# Altium schematic symbol library nnts_brad.SchLib: 40 symbols (part 1 of 2)
Pins are listed as number, name and electrical type; pins without a type are passive.

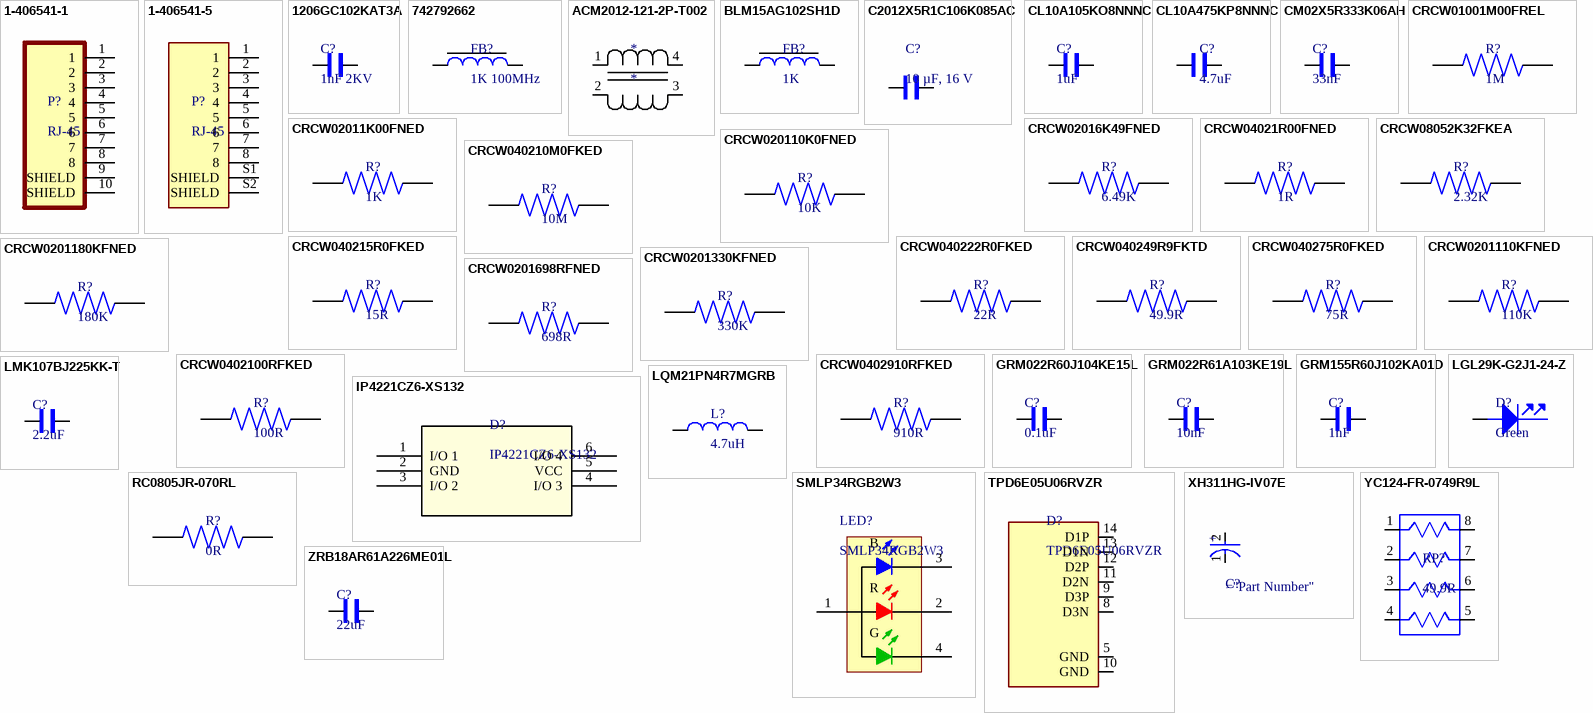
[diagram p0: symbols 1-406541-1 to ZRB18AR61A226ME01L]

## 1-406541-1
designator P?, comment RJ-45
CONN MOD JACK 8P8C R/A SHIELDED; Manufacturer: TE Connectivity; Manufacturer Part Number: 14065411; Number of Terminals/Pins: 10; Keyed: No; Element Configuration: Single; Max Voltage Rating (AC): 150V; Number of Ports: 1; Number of Positions: 8; PCB Mounting Orientation: Right Angle; Gender: Female; Direction: Up; Pitch: 2.04mm; Tail Length: 2.54mm; PCB Thickness: 1.57mm; Approvals: UL,CSA; Supplier 1: Digi-Key; RoHS: Yes; Category: Modular / Ethernet Connectors; Stock 1: 7760; Pricing 1: 1=2.970000, 10=2.848000, 25=2.610400, 50=2.492000, 100=2.373200, 250=2.076600, 500=2.017260, 1000=1.720600, 2500=1.601940 (USD); Mount: Panel; Housing Color: Black; Contact Material: Bronze; Contact Plating: Gold; Housing Material: Thermoplastic; Min Operating Temperature: -40°C; Max Operating Temperature: 80°C; Orientation: Right Angle; Termination: Solder; Packaging: Tray; Package Quantity: 441; Shielding: Shielded; Number of Positions Loaded: 8; Number of Contacts: 8; Connector Type: Jack; Number of Rows: 1; Contact Gender: Female; Length: 17.27mm; Depth: 15.75mm; Radiation Hardening: No; Flammability Rating: UL94 V-0; ELV: Compliant; REACH SVHC: No SVHC; Lead Free: Lead Free; ComponentLink1URL: https://datasheet.ciiva.com/1107/eng-cd-406541-n-1107155.pdf?src-supplier=Element14; ComponentLink1Description: https://datasheet.ciiva.com/1107/eng-cd-406541-n-1107155.pdf?src-supplier=Element14; ComponentLink2URL: https://datasheet.ciiva.com/16215/eng-cs-82066-mod-jacks-and-mrj21-prod-single-1107-16215827.pdf?src-supplier=Future+Electronics; ComponentLink2Description: https://datasheet.ciiva.com/16215/eng-cs-82066-mod-jacks-and-mrj21-prod-single-1107-16215827.pdf?src-supplier=Future+Electronics; ComponentLink3URL: https://datasheet.ciiva.com/19457/889364-19457715.pdf?src-supplier=Jameco; ComponentLink3Description: https://datasheet.ciiva.com/19457/889364-19457715.pdf?src-supplier=Jameco; ComponentLink4URL: https://datasheet.ciiva.com/30494/0900766b8121ebe5-30494365.pdf?src-supplier=RSComponents; ComponentLink4Description: https://datasheet.ciiva.com/30494/0900766b8121ebe5-30494365.pdf?src-supplier=RSComponents; ComponentLink5URL: https://datasheet.ciiva.com/25908/eng-cs-82066-mod-jacks-and-mrj21-prod-single-1107-25908697.pdf?src-supplier=Avnet+Europe; ComponentLink5Description: https://datasheet.ciiva.com/25908/eng-cs-82066-mod-jacks-and-mrj21-prod-single-1107-25908697.pdf?src-supplier=Avnet+Europe; ComponentLink6URL: https://datasheet.ciiva.com/30230/eng-cs-82066-mod-jacks-and-mrj21-prod-single-1107-30230857.pdf?src-supplier=Onlinecomponents.com; ComponentLink6Description: https://datasheet.ciiva.com/30230/eng-cs-82066-mod-jacks-and-mrj21-prod-single-1107-30230857.pdf?src-supplier=Onlinecomponents.com; ComponentLink7URL: https://datasheet.ciiva.com/14619/70042871-14619116.pdf?src-supplier=Allied+Electronics; ComponentLink7Description: https://datasheet.ciiva.com/14619/70042871-14619116.pdf?src-supplier=Allied+Electronics; ComponentLink8URL: https://datasheet.ciiva.com/3138/eng-cs-82066-mod-jacks-and-mrj21-prod-single-1107-3138605.pdf?src-supplier=Avnet; ComponentLink8Description: https://datasheet.ciiva.com/3138/eng-cs-82066-mod-jacks-and-mrj21-prod-single-1107-3138605.pdf?src-supplier=Avnet; Supplier Part Number 1: A97716-ND
footprint TE_1-406541-1
pins: 1, 2, 3, 4, 5, 6, 7, 8, 9 SHIELD, 10 SHIELD

## 1-406541-5
designator P?, comment RJ-45
Conn RJ-45 F 8 POS 2.04mm Solder RA Thru-Hole 8 Terminal 1 Port Tray Cat 5; Manufacturer: TE Connectivity; Manufacturer Part Number: 1-406541-5; Keyed: No; Element Configuration: Single; Shielding: Shielded; Max Voltage Rating (AC): 150V; Number of Ports: 1; Number of Positions: 8; PCB Mounting Orientation: Right Angle; Connector Type: Jack; Gender: Female; Direction: Up; Tail Length: 2.54mm; PCB Thickness: 1.57mm; Supplier 1: Digi-Key; RoHS: Yes; Category: Modular / Ethernet Connectors; Stock 1: 2926; Pricing 1: 1=2.85000, 10=2.73200, 25=2.50440, 50=2.39040, 100=2.27660, 250=1.99208, 500=1.93514, 1000=1.65056, 2500=1.53673 (USD); Mount: Panel; Housing Material: Thermoplastic; Contact Plating: Gold; Contact Material: Bronze; Housing Color: Black; Min Operating Temperature: -40°C; Max Operating Temperature: 80°C; Termination: Solder; Orientation: Right Angle; Packaging: Tray; Package Quantity: 441; Number of Positions Loaded: 8; Number of Contacts: 8; Number of Rows: 1; Length: 17.27mm; Pitch: 2.04mm; Depth: 15.75mm; Radiation Hardening: No; Flammability Rating: UL94 V-0; REACH SVHC: Unknown; ComponentLink1URL: https://datasheet.ciiva.com/30494/0900766b8121d3cc-30494417.pdf?src-supplier=RSComponents; ComponentLink1Description: https://datasheet.ciiva.com/30494/0900766b8121d3cc-30494417.pdf?src-supplier=RSComponents; ComponentLink2URL: https://datasheet.ciiva.com/1107/1652951-1107156.pdf?src-supplier=Element14; ComponentLink2Description: https://datasheet.ciiva.com/1107/1652951-1107156.pdf?src-supplier=Element14; ComponentLink3URL: https://datasheet.ciiva.com/16324/eng-cd-406541-m8-16324678.pdf?src-supplier=Future+Electronics; ComponentLink3Description: https://datasheet.ciiva.com/16324/eng-cd-406541-m8-16324678.pdf?src-supplier=Future+Electronics; ComponentLink4URL: https://datasheet.ciiva.com/23759/1509418-23759355.pdf?src-supplier=Newark; ComponentLink4Description: https://datasheet.ciiva.com/23759/1509418-23759355.pdf?src-supplier=Newark; ComponentLink5URL: https://datasheet.ciiva.com/16548/eng-cd-406541-j-16548134.pdf?src-supplier=Avnet+Europe; ComponentLink5Description: https://datasheet.ciiva.com/16548/eng-cd-406541-j-16548134.pdf?src-supplier=Avnet+Europe; ComponentLink6URL: https://datasheet.ciiva.com/26824/getdatasheetpartid-242299-26824299.pdf?src-supplier=Verical; ComponentLink6Description: https://datasheet.ciiva.com/26824/getdatasheetpartid-242299-26824299.pdf?src-supplier=Verical; Supplier Part Number 1: A102038-ND
footprint TE_1-406541-5
pins: 1, 2, 3, 4, 5, 6, 7, 8, S1 SHIELD, S2 SHIELD

## 1206GC102KAT3A
designator C?, comment 1nF 2KV
1206 1000 pF 2000 V ±10 % Tolerance X7R SMT Multilayer Ceramic Capacitor; Manufacturer: Kyocera AVX; Manufacturer Part Number: 1206GC102KAT3A; Tolerance: 10%; Supplier 1: Mouser; RoHS: Yes; Category: Ceramic Capacitors; Stock 1: 40204; Pricing 1: 1=0.37000, 10=0.27700, 100=0.16600, 500=0.12500, 1000=0.10800, 2500=0.08900 (USD); Mount: Surface Mount; Case/Package: 1206; Case Code (Imperial): 1206; Case Code (Metric): 3216; Min Operating Temperature: -55°C; Max Operating Temperature: 125°C; Capacitance: 1nF; Packaging: Tape and Reel; Package Quantity: 10000; Voltage Rating: 2kV; Dielectric: X7R; Voltage Rating (DC): 2kV; Termination: SMD/SMT; Length: 3.2mm; Depth: 1.6mm; ComponentLink1URL: https://datasheet.ciiva.com/13205/aphvc-13205007.pdf?src-supplier=Mouser; ComponentLink1Description: https://datasheet.ciiva.com/13205/aphvc-13205007.pdf?src-supplier=Mouser; Supplier Part Number 1: 581-1206GC102KAT3A
footprint RESC1206X70N
pins: 1, 2

## 742792662
designator FB?, comment 1K 100MHz
Ferrite Beads Multi-Layer Chip Bead 1KOhm 25% 100MHz 600mA 0603 T/R; Manufacturer: Wurth Electronics; Manufacturer Part Number: 742792662; Impedance: 1kR; Number of Lines: 1; DC Resistance (DCR): 300mR; Test Frequency: 120MHz; Supplier 1: Digi-Key; RoHS: Yes; Category: Ferrite Beads and Chips; Stock 1: 96964; Pricing 1: 1=0.17000, 50=0.16800, 100=0.15500, 500=0.14800, 1000=0.14100, 2000=0.13400 (USD); Mount: Surface Mount; Case/Package: SMD/SMT; Case Code (Metric): 1608; Case Code (Imperial): 0603; Weight: 7.1E-05oz; Material: Ferrite; Min Operating Temperature: -55°C; Max Operating Temperature: 125°C; Package Quantity: 4000; Packaging: Tape and Reel; Tolerance: 25%; Max Current Rating: 600mA; Max DC Current: 600mA; Termination: SMD/SMT; Length: 1.6mm; Width: 0.031inch; Height: 0.8mm; Depth: 0.8mm; Lead Free: Lead Free; ComponentLink1URL: https://datasheet.ciiva.com/29364/742792662-29364469.pdf?src-supplier=Digi-Key; ComponentLink1Description: https://datasheet.ciiva.com/29364/742792662-29364469.pdf?src-supplier=Digi-Key; ComponentLink2URL: https://datasheet.ciiva.com/30489/0900766b812a6756-30489145.pdf?src-supplier=RSComponents; ComponentLink2Description: https://datasheet.ciiva.com/30489/0900766b812a6756-30489145.pdf?src-supplier=RSComponents; ComponentLink3URL: https://datasheet.ciiva.com/29364/742792662-29364471.pdf?src-supplier=Digi-Key; ComponentLink3Description: https://datasheet.ciiva.com/29364/742792662-29364471.pdf?src-supplier=Digi-Key; ComponentLink4URL: https://datasheet.ciiva.com/29364/742792662-29364473.pdf?src-supplier=Digi-Key; ComponentLink4Description: https://datasheet.ciiva.com/29364/742792662-29364473.pdf?src-supplier=Digi-Key; Supplier Part Number 1: 732-4670-1-ND
footprint FB0603
pins: 1, 2

## ACM2012-121-2P-T002
designator *
TDK - ACM2012-121-2P-T002 - Filter, Common Mode, ACM Series, 120 ohm, 370 mA, 2mm x 1.2mm x 1.3mm; Impedance: 120R; Voltage Rating: 50V; Number of Lines: 2; Current Rating: 370mA; DC Resistance (DCR): 220mR; Test Frequency: 100MHz; Shielding: Shielded; Supplier 1: Digi-Key; Manufacturer: TDK; Manufacturer Part Number: ACM2012-121-2P-T002; RoHS: Yes; Category: Common Mode Chokes; Stock 1: 21794; Pricing 1: 1=0.45000, 10=0.39200, 25=0.36400, 50=0.30800, 100=0.28000, 250=0.26320, 500=0.23520, 1000=0.19040 (USD); Mount: Surface Mount; Case/Package: 0805; Min Operating Temperature: -40°C; Max Operating Temperature: 85°C; Package Quantity: 1; Packaging: Tape and Reel; Voltage Rating (DC): 50V; Max DC Current: 370mA; Termination: SMD/SMT; Current: 370mA; Length: 2mm; Width: 1.2mm; Height: 1.3mm; Depth: 1.2mm; REACH SVHC: No SVHC; Lead Free: Lead Free; ComponentLink1URL: https://datasheet.ciiva.com/26793/acm2012-121-2p-t002-26793322.pdf?src-supplier=IIIC; ComponentLink1Description: https://datasheet.ciiva.com/26793/acm2012-121-2p-t002-26793322.pdf?src-supplier=IIIC; ComponentLink2URL: https://datasheet.ciiva.com/1007/e9712-acm-1007629.pdf?src-supplier=Digi-Key; ComponentLink2Description: https://datasheet.ciiva.com/1007/e9712-acm-1007629.pdf?src-supplier=Digi-Key; ComponentLink3URL: https://datasheet.ciiva.com/1007/e9712-acm-1007630.pdf?src-supplier=Digi-Key; ComponentLink3Description: https://datasheet.ciiva.com/1007/e9712-acm-1007630.pdf?src-supplier=Digi-Key; ComponentLink4URL: https://datasheet.ciiva.com/1007/e9712-acm-1007631.pdf?src-supplier=Digi-Key; ComponentLink4Description: https://datasheet.ciiva.com/1007/e9712-acm-1007631.pdf?src-supplier=Digi-Key; ComponentLink5URL: https://datasheet.ciiva.com/16416/e9719-acm2012-16416519.pdf?src-supplier=Future+Electronics; ComponentLink5Description: https://datasheet.ciiva.com/16416/e9719-acm2012-16416519.pdf?src-supplier=Future+Electronics; ComponentLink6URL: https://datasheet.ciiva.com/46450/1750020-46450935.pdf?src-supplier=Element14; ComponentLink6Description: https://datasheet.ciiva.com/46450/1750020-46450935.pdf?src-supplier=Element14; Supplier Part Number 1: 445-2208-1-ND
footprint IND_TDK_ACM2012_2P_TDK-M
pins: 1, 2, 3, 4

## BLM15AG102SH1D
designator FB?, comment 1K
FERRITE BEAD 1 KOHM 0402 1LN; Manufacturer: Murata; Manufacturer Part Number: BLM15AG102SH1D; Impedance: 1kR; Tolerance: 25%; Max DC Current: 200mA; DC Resistance (DCR): 1R; Test Frequency: 100MHz; Number of Lines: 1; Supplier 1: Digi-Key; RoHS: Yes; Category: Ferrite Beads and Chips; Stock 1: 79326; Pricing 1: 1=0.11000, 10=0.09300, 25=0.08320, 50=0.06100, 100=0.05270, 250=0.04164, 500=0.03516, 1000=0.02960, 5000=0.02636 (USD); Mount: Surface Mount; Case/Package: 0402; Core Material: Ferrite; Case Code (Metric): 1005; Case Code (Imperial): 0402; Min Operating Temperature: -55°C; Max Operating Temperature: 125°C; Packaging: Tape and Reel; Package Quantity: 10000; Termination: SMD/SMT; Max Current Rating: 200mA; Number of Circuits: 1; Length: 0.039inch; Width: 0.5mm; Height: 0.022inch; Depth: 0.55mm; Ratings: AEC-Q200; REACH SVHC: No SVHC; ComponentLink1URL: https://datasheet.ciiva.com/29364/l0132s0193blm15a-sh-29364285.pdf?src-supplier=Digi-Key; ComponentLink1Description: https://datasheet.ciiva.com/29364/l0132s0193blm15a-sh-29364285.pdf?src-supplier=Digi-Key; ComponentLink2URL: https://datasheet.ciiva.com/17279/l0132s0193blm15a-sh-17279626.pdf?src-supplier=Avnet+Europe; ComponentLink2Description: https://datasheet.ciiva.com/17279/l0132s0193blm15a-sh-17279626.pdf?src-supplier=Avnet+Europe; ComponentLink3URL: https://datasheet.ciiva.com/8510/l0132s0193blm15a-sh-8510171.pdf?src-supplier=Avnet; ComponentLink3Description: https://datasheet.ciiva.com/8510/l0132s0193blm15a-sh-8510171.pdf?src-supplier=Avnet; ComponentLink4URL: https://datasheet.ciiva.com/29364/l0132s0193blm15a-sh-29364283.pdf?src-supplier=Digi-Key; ComponentLink4Description: https://datasheet.ciiva.com/29364/l0132s0193blm15a-sh-29364283.pdf?src-supplier=Digi-Key; ComponentLink5URL: https://datasheet.ciiva.com/29364/l0132s0193blm15a-sh-29364286.pdf?src-supplier=Digi-Key; ComponentLink5Description: https://datasheet.ciiva.com/29364/l0132s0193blm15a-sh-29364286.pdf?src-supplier=Digi-Key; Supplier Part Number 1: 490-7804-1-ND
footprint FB0402
pins: 1, 2

## C2012X5R1C106K085AC
designator C?, comment 10 µF, 16 V
TDK - C2012X5R1C106K085AC - SMD Multilayer Ceramic Capacitor, 10 µF, 16 V, 0805 [2012 Metric], ± 10%, X5R, C Series TDK; Capacitance: 10uF; Voltage Rating: 16V; Supplier 1: Digi-Key; Manufacturer: TDK; Manufacturer Part Number: C2012X5R1C106K085AC; RoHS: Yes; Category: Ceramic Capacitors; Stock 1: 1442350; Pricing 1: 1=0.25000, 10=0.17500, 100=0.09890, 500=0.06982, 1000=0.06110 (USD); Mount: Surface Mount; Case/Package: 0805; Number of Pins: 2; Weight: 0.000194oz; Case Code (Metric): 2012; Case Code (Imperial): 0805; Dielectric Material: Ceramic; Min Operating Temperature: -55°C; Max Operating Temperature: 85°C; Tolerance: 10%; Packaging: Tape and Reel; Voltage Rating (DC): 16V; Termination: SMD/SMT; Dielectric: X5R; Package Quantity: 1; Composition: Ceramic; Length: 2mm; Height: 0.85mm; Depth: 1.25mm; Width: 0.049inch; Thickness: 0.037inch; Lead Free: Lead Free; REACH SVHC: No SVHC; ComponentLink1URL: https://datasheet.ciiva.com/24218/c2012x5r1c106k085ac-264980-24218056.pdf?src-supplier=Mouser; ComponentLink1Description: https://datasheet.ciiva.com/24218/c2012x5r1c106k085ac-264980-24218056.pdf?src-supplier=Mouser; ComponentLink2URL: https://datasheet.ciiva.com/28451/1796654-28451610.pdf?src-supplier=Element14; ComponentLink2Description: https://datasheet.ciiva.com/28451/1796654-28451610.pdf?src-supplier=Element14; ComponentLink3URL: https://datasheet.ciiva.com/28602/1744655-28602170.pdf?src-supplier=Element14; ComponentLink3Description: https://datasheet.ciiva.com/28602/1744655-28602170.pdf?src-supplier=Element14; ComponentLink4URL: https://datasheet.ciiva.com/6259/tdkmlcccaprange-6259116.pdf?src-supplier=Digi-Key; ComponentLink4Description: https://datasheet.ciiva.com/6259/tdkmlcccaprange-6259116.pdf?src-supplier=Digi-Key; ComponentLink5URL: https://datasheet.ciiva.com/23803/1796654-23803020.pdf?src-supplier=Newark; ComponentLink5Description: https://datasheet.ciiva.com/23803/1796654-23803020.pdf?src-supplier=Newark; ComponentLink6URL: https://datasheet.ciiva.com/22719/1796654-22719549.pdf?src-supplier=Element14; ComponentLink6Description: https://datasheet.ciiva.com/22719/1796654-22719549.pdf?src-supplier=Element14; ComponentLink7URL: https://datasheet.ciiva.com/6259/tdkmlcccaprange-6259119.pdf?src-supplier=Digi-Key; ComponentLink7Description: https://datasheet.ciiva.com/6259/tdkmlcccaprange-6259119.pdf?src-supplier=Digi-Key; ComponentLink8URL: https://datasheet.ciiva.com/28673/mlcc-commercial-general-en-28673535.pdf?src-supplier=Element14; ComponentLink8Description: https://datasheet.ciiva.com/28673/mlcc-commercial-general-en-28673535.pdf?src-supplier=Element14; Supplier Part Number 1: 445-7644-1-ND
footprint C0805
pins: 1, 2

## CL10A105KO8NNNC
designator C?, comment 1uF
SAMSUNG ELECTRO-MECHANICS - CL10A105KO8NNNC - CAP, 1UF, 16V, MLCC, 0603; Material: Ceramic; Tolerance: 10%; Dielectric: X5R; Supplier 1: Digi-Key; Manufacturer: Samsung; Manufacturer Part Number: CL10A105KO8NNNC; RoHS: Yes; Category: Ceramic Capacitors; Stock 1: 1739627; Pricing 1: 1=0.10000, 10=0.03500, 50=0.01920, 100=0.01570, 500=0.01124, 1000=0.00883 (USD); Mount: Surface Mount; Case/Package: 0603; Case Code (Metric): 1608; Case Code (Imperial): 0603; Contact Plating: Tin; Min Operating Temperature: -55°C; Max Operating Temperature: 85°C; Capacitance: 1uF; Package Quantity: 1; Packaging: Tape and Reel; Voltage Rating: 16V; Voltage Rating (DC): 16V; Voltage: 16V; Length: 1.6mm; Width: 0.031inch; Height: 0.8mm; Thickness: 0.035inch; Depth: 0.8mm; Radiation Hardening: No; Lead Free: Lead Free; ComponentLink1URL: https://datasheet.ciiva.com/16199/cl10a105ko8nnnc-16199033.pdf?src-supplier=Future+Electronics; ComponentLink1Description: https://datasheet.ciiva.com/16199/cl10a105ko8nnnc-16199033.pdf?src-supplier=Future+Electronics; ComponentLink2URL: https://datasheet.ciiva.com/15195/getdatasheetpartid-359688-15195706.pdf?src-supplier=Verical; ComponentLink2Description: https://datasheet.ciiva.com/15195/getdatasheetpartid-359688-15195706.pdf?src-supplier=Verical; ComponentLink3URL: https://datasheet.ciiva.com/29198/458190-da-01-en-vs-kondensator-0603-29198480.pdf?src-supplier=Conrad; ComponentLink3Description: https://datasheet.ciiva.com/29198/458190-da-01-en-vs-kondensator-0603-29198480.pdf?src-supplier=Conrad; Supplier Part Number 1: 1276-1034-1-ND
footprint C0603
pins: 1, 2

## CL10A475KP8NNNC
designator C?, comment 4.7uF
Cap Ceramic 4.7uF 10V X5R 10% Pad SMD 0603 85C T/R; Manufacturer: Samsung; Manufacturer Part Number: CL10A475KP8NNNC; Supplier 1: Digi-Key; RoHS: Yes; Category: Ceramic Capacitors; Stock 1: 274416; Pricing 1: 1=0.10000, 10=0.04800, 50=0.02620, 100=0.02140, 500=0.01528, 1000=0.01201 (USD); Mount: Surface Mount; Case/Package: 0603; Case Code (Imperial): 0603; Contact Plating: Tin; Case Code (Metric): 1608; Min Operating Temperature: -55°C; Max Operating Temperature: 85°C; Tolerance: 10%; Capacitance: 4.7uF; Dielectric: X5R; Package Quantity: 1; Packaging: Tape and Reel; Voltage Rating: 10V; Length: 1.6mm; Width: 0.031inch; Height: 0.8mm; Thickness: 0.035inch; Depth: 0.8mm; Radiation Hardening: No; ComponentLink1URL: https://datasheet.ciiva.com/25797/cl10a475kp8nnnc-25797520.pdf?src-supplier=Digi-Key; ComponentLink1Description: https://datasheet.ciiva.com/25797/cl10a475kp8nnnc-25797520.pdf?src-supplier=Digi-Key; ComponentLink2URL: https://datasheet.ciiva.com/26838/getdatasheetpartid-358676-26838384.pdf?src-supplier=Verical; ComponentLink2Description: https://datasheet.ciiva.com/26838/getdatasheetpartid-358676-26838384.pdf?src-supplier=Verical; ComponentLink3URL: https://datasheet.ciiva.com/16318/cl05b104kq5nnnc-16318245.pdf?src-supplier=Future+Electronics; ComponentLink3Description: https://datasheet.ciiva.com/16318/cl05b104kq5nnnc-16318245.pdf?src-supplier=Future+Electronics; Supplier Part Number 1: 1276-1044-1-ND
footprint C0603
pins: 1, 2

## CM02X5R333K06AH
designator C?, comment 33nF
Multilayer Ceramic Capacitors MLCC - SMD/SMT 6.3V 0.033uF X5R 01005 10%; Manufacturer: Kyocera AVX; Manufacturer Part Number: CM02X5R333K06AH; Supplier 1: Digi-Key; RoHS: No; Stock 1: 20000; Pricing 1: 1=0.10000, 10=0.04800, 50=0.02640, 100=0.02160, 500=0.01540, 1000=0.01210, 2500=0.01100, 5000=0.01012 (USD); Supplier Part Number 1: 1253-CM02X5R333K06AHCT-ND
footprint C0402
pins: 1, 2

## CRCW01001M00FREL
designator R?, comment 1M
CRCW01005 250 1M0 1% ET3 e3; Manufacturer: Vishay Dale; Manufacturer Part Number: CRCW01001M00FREL; Resistance: 1MR; Max Power Dissipation: 30mW; Temperature Coefficient: 250ppm/°C; Supplier 1: Digi-Key; RoHS: Yes; Category: Chip SMD Resistors; Stock 1: 36606; Pricing 1: 1=0.24000, 10=0.20400, 100=0.07960, 1000=0.03330, 2500=0.03052, 5000=0.02775 (USD); Case Code (Imperial): 1005; Case Code (Metric): 0402; Min Operating Temperature: -55°C; Max Operating Temperature: 125°C; Tolerance: 1%; Package Quantity: 20000; Packaging: Tape and Reel; Resistor Type: Thick Film; Number of Terminations: 2; Length: 0.016inch; Width: 0.008inch; Height: 0.006inch; ComponentLink1URL: http://www.vishay.com/docs/20056/crcw01005e3.pdf?src-supplier=Digi-Key; ComponentLink1Description: http://www.vishay.com/docs/20056/crcw01005e3.pdf?src-supplier=Digi-Key; Supplier Part Number 1: 541-4280-1-ND
footprint R0402 Vishay
pins: 1, 2

## CRCW02011K00FNED
designator R?, comment 1K
Res Thick Film 0201 1K Ohm 1% 1/20W 200ppm/C Molded SMD SMD Paper T/R; Manufacturer: Vishay; Manufacturer Part Number: CRCW02011K00FNED; Resistance: 1kR; Power Rating: 50mW; Voltage Rating: 30V; Temperature Coefficient: 200ppm/°C; Supplier 1: Digi-Key; RoHS: Yes; Category: Chip SMD Resistors; Stock 1: 279214; Pricing 1: 1=0.10000, 10=0.05700, 100=0.02300, 1000=0.01034, 2500=0.00897, 5000=0.00741 (USD); Mount: Surface Mount; Case/Package: 0201; Number of Pins: 2; Weight: 6E-06oz; Case Code (Metric): 0603; Case Code (Imperial): 0201; Contact Plating: Tin; Min Operating Temperature: -55°C; Max Operating Temperature: 155°C; Packaging: Tape and Reel; Tolerance: 1%; Package Quantity: 1; Resistor Type: Thick Film; Number of Terminations: 2; Termination: SMD/SMT; Max Power Dissipation: 50mW; Voltage Rating (DC): 30V; Length: 0.6mm; Width: 0.012inch; Height: 0.011inch; Depth: 0.3mm; Radiation Hardening: No; REACH SVHC: Unknown; Military Standard: Not; Lead Free: Lead Free; ComponentLink1URL: https://datasheet.ciiva.com/2474/crcw0201e3-2474800.pdf?src-supplier=Digi-Key; ComponentLink1Description: https://datasheet.ciiva.com/2474/crcw0201e3-2474800.pdf?src-supplier=Digi-Key; ComponentLink2URL: https://datasheet.ciiva.com/2474/crcw0201e3-2474802.pdf?src-supplier=Digi-Key; ComponentLink2Description: https://datasheet.ciiva.com/2474/crcw0201e3-2474802.pdf?src-supplier=Digi-Key; ComponentLink3URL: https://datasheet.ciiva.com/22665/1825492-22665818.pdf?src-supplier=Element14; ComponentLink3Description: https://datasheet.ciiva.com/22665/1825492-22665818.pdf?src-supplier=Element14; ComponentLink4URL: https://datasheet.ciiva.com/7983/1719906-7983323.pdf?src-supplier=Element14; ComponentLink4Description: https://datasheet.ciiva.com/7983/1719906-7983323.pdf?src-supplier=Element14; ComponentLink5URL: https://datasheet.ciiva.com/7983/1719906-7983324.pdf?src-supplier=Element14; ComponentLink5Description: https://datasheet.ciiva.com/7983/1719906-7983324.pdf?src-supplier=Element14; ComponentLink6URL: https://datasheet.ciiva.com/2474/crcw0201e3-2474801.pdf?src-supplier=Digi-Key; ComponentLink6Description: https://datasheet.ciiva.com/2474/crcw0201e3-2474801.pdf?src-supplier=Digi-Key; ComponentLink7URL: https://datasheet.ciiva.com/3255/crcw0201e3-3255929.pdf?src-supplier=Avnet; ComponentLink7Description: https://datasheet.ciiva.com/3255/crcw0201e3-3255929.pdf?src-supplier=Avnet; ComponentLink8URL: https://datasheet.ciiva.com/22871/70202042-22871422.pdf?src-supplier=Allied+Electronics; ComponentLink8Description: https://datasheet.ciiva.com/22871/70202042-22871422.pdf?src-supplier=Allied+Electronics; ComponentLink9URL: https://datasheet.ciiva.com/22692/1719906-22692751.pdf?src-supplier=Element14; ComponentLink9Description: https://datasheet.ciiva.com/22692/1719906-22692751.pdf?src-supplier=Element14; Supplier Part Number 1: 541-1.00KABCT-ND
footprint R0603 Vishay
pins: 1, 2

## CRCW02016K49FNED
designator R?, comment 6.49K
RES SMD 6.49K OHM 1% 1/20W 0201; Manufacturer: Vishay; Manufacturer Part Number: CRCW02016K49FNED; Power Rating: 50mW; Voltage Rating: 30V; Resistance: 6.49kR; Temperature Coefficient: 200ppm/°C; Supplier 1: Digi-Key; RoHS: Yes; Category: Chip SMD Resistors; Stock 1: 4970; Pricing 1: 1=0.10000, 10=0.05700, 100=0.02300, 1000=0.01034, 2500=0.00897, 5000=0.00741 (USD); Case/Package: 0201; Case Code (Metric): 0603; Case Code (Imperial): 0201; Contact Plating: Tin; Min Operating Temperature: -55°C; Max Operating Temperature: 155°C; Tolerance: 1%; Packaging: Cut Tape; Resistor Type: Thick Film; Voltage Rating (DC): 30V; Length: 600um; Width: 300um; Height: 230um; REACH SVHC: Unknown; Lead Free: Lead Free; ComponentLink1URL: https://datasheet.ciiva.com/22684/1700795-22684054.pdf?src-supplier=Element14; ComponentLink1Description: https://datasheet.ciiva.com/22684/1700795-22684054.pdf?src-supplier=Element14; ComponentLink2URL: https://datasheet.ciiva.com/9062/crcw0201e3-9062251.pdf?src-supplier=Avnet; ComponentLink2Description: https://datasheet.ciiva.com/9062/crcw0201e3-9062251.pdf?src-supplier=Avnet; Supplier Part Number 1: 541-CRCW02016K49FNEDCT-ND
footprint R0603 Vishay
pins: 1, 2

## CRCW04021R00FNED
designator R?, comment 1R
RES SMD 1 OHM 1% 1/16W 0402; Manufacturer: Vishay; Manufacturer Part Number: CRCW04021R00FNED; Power Rating: 63mW; Voltage Rating: 50V; Temperature Coefficient: 200ppm/°C; Supplier 1: Digi-Key; RoHS: Yes; Category: Chip SMD Resistors; Stock 1: 16685; Pricing 1: 1=0.10000, 10=0.05000, 100=0.02040, 1000=0.00914, 2500=0.00794, 5000=0.00656 (USD); Mount: Surface Mount; Case/Package: 0402; Number of Pins: 2; Weight: 2.3E-05oz; Case Code (Metric): 1005; Case Code (Imperial): 0402; Contact Plating: Tin; Min Operating Temperature: -55°C; Max Operating Temperature: 155°C; Resistance: 1R; Tolerance: 1%; Packaging: Tape and Reel; Package Quantity: 10000; Resistor Type: Thick Film; Number of Terminations: 2; Termination: SMD/SMT; Max Power Dissipation: 63mW; Voltage Rating (DC): 50V; Features: Automotive AEC-Q200; Length: 1mm; Width: 0.02inch; Height: 0.016inch; Depth: 0.5mm; Radiation Hardening: No; REACH SVHC: Unknown; Military Standard: Not; Lead Free: Lead Free; ComponentLink1URL: https://datasheet.ciiva.com/2560/dcrcwe3-2560101.pdf?src-supplier=Digi-Key; ComponentLink1Description: https://datasheet.ciiva.com/2560/dcrcwe3-2560101.pdf?src-supplier=Digi-Key; ComponentLink2URL: https://datasheet.ciiva.com/6027/1697337-6027861.pdf?src-supplier=Farnell; ComponentLink2Description: https://datasheet.ciiva.com/6027/1697337-6027861.pdf?src-supplier=Farnell; ComponentLink3URL: https://datasheet.ciiva.com/2560/dcrcwe3-2560102.pdf?src-supplier=Digi-Key; ComponentLink3Description: https://datasheet.ciiva.com/2560/dcrcwe3-2560102.pdf?src-supplier=Digi-Key; ComponentLink4URL: https://datasheet.ciiva.com/2560/dcrcwe3-2560103.pdf?src-supplier=Digi-Key; ComponentLink4Description: https://datasheet.ciiva.com/2560/dcrcwe3-2560103.pdf?src-supplier=Digi-Key; ComponentLink5URL: https://datasheet.ciiva.com/3256/dcrcwe3-3256199.pdf?src-supplier=Avnet; ComponentLink5Description: https://datasheet.ciiva.com/3256/dcrcwe3-3256199.pdf?src-supplier=Avnet; ComponentLink6URL: https://datasheet.ciiva.com/3256/dcrcwe3-3256200.pdf?src-supplier=Avnet; ComponentLink6Description: https://datasheet.ciiva.com/3256/dcrcwe3-3256200.pdf?src-supplier=Avnet; ComponentLink7URL: https://datasheet.ciiva.com/5552/dcrcwe3-109170-5552232.pdf?src-supplier=Mouser; ComponentLink7Description: https://datasheet.ciiva.com/5552/dcrcwe3-109170-5552232.pdf?src-supplier=Mouser; ComponentLink8URL: https://datasheet.ciiva.com/16436/dcrcwe3-16436173.pdf?src-supplier=Future+Electronics; ComponentLink8Description: https://datasheet.ciiva.com/16436/dcrcwe3-16436173.pdf?src-supplier=Future+Electronics; ComponentLink9URL: https://datasheet.ciiva.com/7841/125364-7841807.pdf?src-supplier=Element14; ComponentLink9Description: https://datasheet.ciiva.com/7841/125364-7841807.pdf?src-supplier=Element14; Supplier Part Number 1: 541-1.00LCT-ND
footprint R0402 Vishay
pins: 1, 2

## CRCW08052K32FKEA
designator R?, comment 2.32K
VISHAY - CRCW08052K32FKEA - RES, THICK FILM, 2K32, 1%, 0.125W, 0805; Resistance: 2.32kR; Temperature Coefficient: 100ppm/°C; Max Power Dissipation: 125mW; Voltage Rating: 150V; Supplier 1: Digi-Key; Manufacturer: Vishay; Manufacturer Part Number: CRCW08052K32FKEA; RoHS: Yes; Category: Chip SMD Resistors; Stock 1: 20040; Pricing 1: 1=0.10000, 10=0.05700, 100=0.02310, 1000=0.01039, 2500=0.00902 (USD); Case/Package: 0805; Number of Pins: 2; Contact Plating: Tin; Weight: 0.000194oz; Case Code (Imperial): 0805; Case Code (Metric): 2012; Min Operating Temperature: -55°C; Max Operating Temperature: 155°C; Tolerance: 1%; Resistor Type: Thick Film; Packaging: Tape and Reel; Number of Terminations: 2; Package Quantity: 10; Features: Automotive AEC-Q200; Power Rating: 125mW; Termination: SMD/SMT; Voltage Rating (DC): 150V; Length: 2mm; Width: 1.25mm; Height: 0.02inch; Depth: 1.25mm; Radiation Hardening: No; Lead Free: Lead Free; REACH SVHC: Unknown; Military Standard: Not; ComponentLink1URL: https://datasheet.ciiva.com/16435/dcrcwe3-16435909.pdf?src-supplier=Future+Electronics; ComponentLink1Description: https://datasheet.ciiva.com/16435/dcrcwe3-16435909.pdf?src-supplier=Future+Electronics; ComponentLink2URL: https://datasheet.ciiva.com/3258/dcrcwe3-3258438.pdf?src-supplier=Avnet; ComponentLink2Description: https://datasheet.ciiva.com/3258/dcrcwe3-3258438.pdf?src-supplier=Avnet; ComponentLink3URL: https://datasheet.ciiva.com/3258/dcrcwe3-3258439.pdf?src-supplier=Avnet; ComponentLink3Description: https://datasheet.ciiva.com/3258/dcrcwe3-3258439.pdf?src-supplier=Avnet; ComponentLink4URL: https://datasheet.ciiva.com/2525/dcrcwe3-2525755.pdf?src-supplier=Digi-Key; ComponentLink4Description: https://datasheet.ciiva.com/2525/dcrcwe3-2525755.pdf?src-supplier=Digi-Key; ComponentLink5URL: https://datasheet.ciiva.com/2525/dcrcwe3-2525756.pdf?src-supplier=Digi-Key; ComponentLink5Description: https://datasheet.ciiva.com/2525/dcrcwe3-2525756.pdf?src-supplier=Digi-Key; ComponentLink6URL: https://datasheet.ciiva.com/2525/dcrcwe3-2525757.pdf?src-supplier=Digi-Key; ComponentLink6Description: https://datasheet.ciiva.com/2525/dcrcwe3-2525757.pdf?src-supplier=Digi-Key; ComponentLink7URL: https://datasheet.ciiva.com/7670/1697337-7670286.pdf?src-supplier=Element14; ComponentLink7Description: https://datasheet.ciiva.com/7670/1697337-7670286.pdf?src-supplier=Element14; ComponentLink8URL: https://datasheet.ciiva.com/17201/dcrcwe3-17201132.pdf?src-supplier=Avnet+Europe; ComponentLink8Description: https://datasheet.ciiva.com/17201/dcrcwe3-17201132.pdf?src-supplier=Avnet+Europe; ComponentLink9URL: https://datasheet.ciiva.com/7670/1697337-7670285.pdf?src-supplier=Element14; ComponentLink9Description: https://datasheet.ciiva.com/7670/1697337-7670285.pdf?src-supplier=Element14; ComponentLink10URL: https://datasheet.ciiva.com/22675/1825492-22675197.pdf?src-supplier=Element14; ComponentLink10Description: https://datasheet.ciiva.com/22675/1825492-22675197.pdf?src-supplier=Element14; ComponentLink11URL: https://datasheet.ciiva.com/16769/70201119-16769374.pdf?src-supplier=Allied+Electronics; ComponentLink11Description: https://datasheet.ciiva.com/16769/70201119-16769374.pdf?src-supplier=Allied+Electronics; Supplier Part Number 1: 541-2.32KCCT-ND
footprint R0805 Vishay
pins: 1, 2

## CRCW020110K0FNED
designator R?, comment 10K
VISHAY - CRCW020110K0FNED. - Surface Mount Thick Film Resistor, AEC-Q200 CRCW Series, 10 kohm, 50 mW, -  1%, 30 V RoHS Compliant: Yes; Resistance: 10kR; Power Rating: 50mW; Voltage Rating: 30V; Temperature Coefficient: 200ppm/°C; Supplier 1: Digi-Key; Manufacturer: Vishay; Manufacturer Part Number: CRCW020110K0FNED; RoHS: Yes; Category: Chip SMD Resistors; Stock 1: 567966; Pricing 1: 1=0.10000, 10=0.05700, 100=0.02300, 1000=0.01034, 2500=0.00897, 5000=0.00741 (USD); Mount: Surface Mount; Case/Package: 0201; Number of Pins: 2; Weight: 6E-06oz; Case Code (Imperial): 0201; Case Code (Metric): 0603; Contact Plating: Tin; Min Operating Temperature: -55°C; Max Operating Temperature: 155°C; Tolerance: 1%; Packaging: Tape and Reel; Package Quantity: 1; Termination: SMD/SMT; Resistor Type: Thick Film; Number of Terminations: 2; Max Power Dissipation: 50mW; Voltage Rating (DC): 30V; Length: 0.6mm; Width: 0.3mm; Height: 0.011inch; Depth: 0.3mm; Radiation Hardening: No; REACH SVHC: Unknown; Military Standard: Not; Lead Free: Lead Free; ComponentLink1URL: https://datasheet.ciiva.com/2474/crcw0201e3-2474818.pdf?src-supplier=Digi-Key; ComponentLink1Description: https://datasheet.ciiva.com/2474/crcw0201e3-2474818.pdf?src-supplier=Digi-Key; ComponentLink2URL: https://datasheet.ciiva.com/7983/1719906-7983320.pdf?src-supplier=Element14; ComponentLink2Description: https://datasheet.ciiva.com/7983/1719906-7983320.pdf?src-supplier=Element14; ComponentLink3URL: https://datasheet.ciiva.com/16436/dcrcwe3-16436222.pdf?src-supplier=Future+Electronics; ComponentLink3Description: https://datasheet.ciiva.com/16436/dcrcwe3-16436222.pdf?src-supplier=Future+Electronics; ComponentLink4URL: https://datasheet.ciiva.com/2474/crcw0201e3-2474819.pdf?src-supplier=Digi-Key; ComponentLink4Description: https://datasheet.ciiva.com/2474/crcw0201e3-2474819.pdf?src-supplier=Digi-Key; ComponentLink5URL: https://datasheet.ciiva.com/2474/crcw0201e3-2474820.pdf?src-supplier=Digi-Key; ComponentLink5Description: https://datasheet.ciiva.com/2474/crcw0201e3-2474820.pdf?src-supplier=Digi-Key; ComponentLink6URL: https://datasheet.ciiva.com/22692/1719906-22692709.pdf?src-supplier=Element14; ComponentLink6Description: https://datasheet.ciiva.com/22692/1719906-22692709.pdf?src-supplier=Element14; ComponentLink7URL: https://datasheet.ciiva.com/7983/1719906-7983319.pdf?src-supplier=Element14; ComponentLink7Description: https://datasheet.ciiva.com/7983/1719906-7983319.pdf?src-supplier=Element14; ComponentLink8URL: https://datasheet.ciiva.com/22868/70202042-22868839.pdf?src-supplier=Allied+Electronics; ComponentLink8Description: https://datasheet.ciiva.com/22868/70202042-22868839.pdf?src-supplier=Allied+Electronics; Supplier Part Number 1: 541-10.0KABCT-ND
footprint R0603 Vishay
pins: 1, 2

## CRCW040210M0FKED
designator R?, comment 10M
RESISTOR, 0402, 10M, 1%, FULL REEL; Product Range:VISHAY - AEC-Q200 CRCW Series; Resistance:10Mohm; Power Rating:63mW; Resistance Tolerance:± 1%; Resistor Case Style:0402 [1005 Metric]; Resistor Element Material:Thick Film; ;RoHS Compliant: Yes; Manufacturer: Vishay; Manufacturer Part Number: CRCW040210M0FKED; Resistance: 10MR; Temperature Coefficient: 100ppm/°C; Max Power Dissipation: 63mW; Voltage Rating: 50V; Supplier 1: Digi-Key; RoHS: Yes; Category: Chip SMD Resistors; Stock 1: 167645; Pricing 1: 1=0.10000, 10=0.03300, 100=0.01330, 1000=0.00596, 2500=0.00518, 5000=0.00428 (USD); Mount: Surface Mount; Case/Package: 0402; Case Code (Metric): 1005; Case Code (Imperial): 0402; Weight: 2.3E-05oz; Contact Plating: Tin; Min Operating Temperature: -55°C; Max Operating Temperature: 155°C; Resistor Type: Thick Film; Tolerance: 1%; Packaging: Tape and Reel; Number of Terminations: 2; Power Rating: 63mW; Package Quantity: 10; Termination: SMD/SMT; Voltage Rating (DC): 50V; Features: Automotive AEC-Q200; Length: 1mm; Width: 0.02inch; Height: 0.35mm; Depth: 0.5mm; Radiation Hardening: No; REACH SVHC: Unknown; Military Standard: Not; Lead Free: Lead Free; ComponentLink1URL: https://datasheet.ciiva.com/11811/0900766b80d98824-11811586.pdf?src-supplier=RSComponents; ComponentLink1Description: https://datasheet.ciiva.com/11811/0900766b80d98824-11811586.pdf?src-supplier=RSComponents; ComponentLink2URL: https://datasheet.ciiva.com/2463/dcrcwe3-2463089.pdf?src-supplier=Digi-Key; ComponentLink2Description: https://datasheet.ciiva.com/2463/dcrcwe3-2463089.pdf?src-supplier=Digi-Key; ComponentLink3URL: https://datasheet.ciiva.com/2463/dcrcwe3-2463088.pdf?src-supplier=Digi-Key; ComponentLink3Description: https://datasheet.ciiva.com/2463/dcrcwe3-2463088.pdf?src-supplier=Digi-Key; ComponentLink4URL: https://datasheet.ciiva.com/2463/dcrcwe3-2463090.pdf?src-supplier=Digi-Key; ComponentLink4Description: https://datasheet.ciiva.com/2463/dcrcwe3-2463090.pdf?src-supplier=Digi-Key; ComponentLink5URL: https://datasheet.ciiva.com/5552/dcrcwe3-109170-5552597.pdf?src-supplier=Mouser; ComponentLink5Description: https://datasheet.ciiva.com/5552/dcrcwe3-109170-5552597.pdf?src-supplier=Mouser; ComponentLink6URL: https://datasheet.ciiva.com/16881/dcrcwe3-16881451.pdf?src-supplier=Avnet+Europe; ComponentLink6Description: https://datasheet.ciiva.com/16881/dcrcwe3-16881451.pdf?src-supplier=Avnet+Europe; ComponentLink7URL: https://datasheet.ciiva.com/26316/fld-crcw-e3-data-en-26316614.pdf?src-supplier=Distrelec; ComponentLink7Description: https://datasheet.ciiva.com/26316/fld-crcw-e3-data-en-26316614.pdf?src-supplier=Distrelec; ComponentLink8URL: https://datasheet.ciiva.com/16773/70201119-16773258.pdf?src-supplier=Allied+Electronics; ComponentLink8Description: https://datasheet.ciiva.com/16773/70201119-16773258.pdf?src-supplier=Allied+Electronics; Supplier Part Number 1: 541-10.0MLCT-ND
footprint R0402 Vishay
pins: 1, 2

## CRCW040215R0FKED
designator R?, comment 15R
VISHAY - CRCW040215R0FKED - SMD Chip Resistor, 0402 [1005 Metric], 15 ohm, CRCW e3 Series, 50 V, Thick Film, 63 mW; Tolerance: 1%; Temperature Coefficient: 100ppm/°C; Power Rating: 63mW; Voltage Rating: 50V; Supplier 1: Digi-Key; Manufacturer: Vishay; Manufacturer Part Number: CRCW040215R0FKED; RoHS: Yes; Category: Chip SMD Resistors; Stock 1: 18; Pricing 1: 1=0.10000, 10=0.03300, 100=0.01330, 1000=0.00596, 2500=0.00518, 5000=0.00428 (USD); Case/Package: 0402; Contact Plating: Tin; Case Code (Imperial): 0402; Case Code (Metric): 1005; Weight: 2.3E-05oz; Min Operating Temperature: -55°C; Max Operating Temperature: 155°C; Resistance: 15R; Resistor Type: Thick Film; Packaging: Tape and Reel; Package Quantity: 10; Termination: SMD/SMT; Number of Terminations: 2; Max Power Dissipation: 63mW; Voltage Rating (DC): 50V; Features: Automotive AEC-Q200; Length: 1mm; Width: 0.5mm; Height: 0.35mm; Depth: 0.5mm; Radiation Hardening: No; REACH SVHC: Unknown; Lead Free: Lead Free; Military Standard: Not; ComponentLink1URL: https://datasheet.ciiva.com/11812/0900766b80d98824-11812193.pdf?src-supplier=RSComponents; ComponentLink1Description: https://datasheet.ciiva.com/11812/0900766b80d98824-11812193.pdf?src-supplier=RSComponents; ComponentLink2URL: https://datasheet.ciiva.com/5550/dcrcwe3-109170-5550213.pdf?src-supplier=Mouser; ComponentLink2Description: https://datasheet.ciiva.com/5550/dcrcwe3-109170-5550213.pdf?src-supplier=Mouser; ComponentLink3URL: https://datasheet.ciiva.com/2463/dcrcwe3-2463641.pdf?src-supplier=Digi-Key; ComponentLink3Description: https://datasheet.ciiva.com/2463/dcrcwe3-2463641.pdf?src-supplier=Digi-Key; ComponentLink4URL: https://datasheet.ciiva.com/2463/dcrcwe3-2463642.pdf?src-supplier=Digi-Key; ComponentLink4Description: https://datasheet.ciiva.com/2463/dcrcwe3-2463642.pdf?src-supplier=Digi-Key; ComponentLink5URL: https://datasheet.ciiva.com/16778/70201119-16778045.pdf?src-supplier=Allied+Electronics; ComponentLink5Description: https://datasheet.ciiva.com/16778/70201119-16778045.pdf?src-supplier=Allied+Electronics; ComponentLink6URL: https://datasheet.ciiva.com/7777/1697337-7777205.pdf?src-supplier=Element14; ComponentLink6Description: https://datasheet.ciiva.com/7777/1697337-7777205.pdf?src-supplier=Element14; ComponentLink7URL: https://datasheet.ciiva.com/2463/dcrcwe3-2463640.pdf?src-supplier=Digi-Key; ComponentLink7Description: https://datasheet.ciiva.com/2463/dcrcwe3-2463640.pdf?src-supplier=Digi-Key; ComponentLink8URL: https://datasheet.ciiva.com/26316/fld-crcw-e3-data-en-26316664.pdf?src-supplier=Distrelec; ComponentLink8Description: https://datasheet.ciiva.com/26316/fld-crcw-e3-data-en-26316664.pdf?src-supplier=Distrelec; ComponentLink9URL: https://datasheet.ciiva.com/16880/dcrcwe3-16880876.pdf?src-supplier=Avnet+Europe; ComponentLink9Description: https://datasheet.ciiva.com/16880/dcrcwe3-16880876.pdf?src-supplier=Avnet+Europe; ComponentLink10URL: https://datasheet.ciiva.com/22869/70201119-22869118.pdf?src-supplier=Allied+Electronics; ComponentLink10Description: https://datasheet.ciiva.com/22869/70201119-22869118.pdf?src-supplier=Allied+Electronics; ComponentLink11URL: https://datasheet.ciiva.com/16393/dcrcwe3-16393535.pdf?src-supplier=Future+Electronics; ComponentLink11Description: https://datasheet.ciiva.com/16393/dcrcwe3-16393535.pdf?src-supplier=Future+Electronics; ComponentLink12URL: https://datasheet.ciiva.com/22740/1533075-22740367.pdf?src-supplier=Element14; ComponentLink12Description: https://datasheet.ciiva.com/22740/1533075-22740367.pdf?src-supplier=Element14; Supplier Part Number 1: 541-15.0LCT-ND
footprint R0402 Vishay
pins: 1, 2

## CRCW040222R0FKED
designator R?, comment 22R
VISHAY - CRCW040222R0FKED. - Resistor Case Style:0402 [1005 Metric], 22ohm; Power Rating: 63mW; Tolerance: 1%; Voltage Rating: 50V; Temperature Coefficient: 100ppm/°C; Supplier 1: Digi-Key; Manufacturer: Vishay; Manufacturer Part Number: CRCW040222R0FKED; RoHS: Yes; Category: Chip SMD Resistors; Stock 1: 167744; Pricing 1: 1=0.10000, 10=0.03300, 100=0.01330, 1000=0.00596, 2500=0.00518, 5000=0.00428 (USD); Mount: Surface Mount; Case/Package: 0402; Weight: 2.3E-05oz; Case Code (Metric): 1005; Case Code (Imperial): 0402; Contact Plating: Tin; Min Operating Temperature: -55°C; Max Operating Temperature: 155°C; Resistance: 22R; Packaging: Tape and Reel; Package Quantity: 10; Resistor Type: Thick Film; Number of Terminations: 2; Termination: SMD/SMT; Max Power Dissipation: 63mW; Voltage Rating (DC): 50V; Features: Automotive AEC-Q200; Length: 1mm; Width: 0.02inch; Height: 0.35mm; Depth: 0.5mm; Radiation Hardening: No; Lead Free: Lead Free; REACH SVHC: Unknown; Military Standard: Not; ComponentLink1URL: https://datasheet.ciiva.com/11809/0900766b80d98824-11809869.pdf?src-supplier=RSComponents; ComponentLink1Description: https://datasheet.ciiva.com/11809/0900766b80d98824-11809869.pdf?src-supplier=RSComponents; ComponentLink2URL: https://datasheet.ciiva.com/3256/dcrcwe3-3256250.pdf?src-supplier=Avnet; ComponentLink2Description: https://datasheet.ciiva.com/3256/dcrcwe3-3256250.pdf?src-supplier=Avnet; ComponentLink3URL: https://datasheet.ciiva.com/16776/70201119-16776426.pdf?src-supplier=Allied+Electronics; ComponentLink3Description: https://datasheet.ciiva.com/16776/70201119-16776426.pdf?src-supplier=Allied+Electronics; ComponentLink4URL: https://datasheet.ciiva.com/26316/fld-crcw-e3-data-en-26316666.pdf?src-supplier=Distrelec; ComponentLink4Description: https://datasheet.ciiva.com/26316/fld-crcw-e3-data-en-26316666.pdf?src-supplier=Distrelec; ComponentLink5URL: https://datasheet.ciiva.com/16886/dcrcwe3-16886668.pdf?src-supplier=Avnet+Europe; ComponentLink5Description: https://datasheet.ciiva.com/16886/dcrcwe3-16886668.pdf?src-supplier=Avnet+Europe; ComponentLink6URL: https://datasheet.ciiva.com/7672/1697337-7672781.pdf?src-supplier=Element14; ComponentLink6Description: https://datasheet.ciiva.com/7672/1697337-7672781.pdf?src-supplier=Element14; ComponentLink7URL: https://datasheet.ciiva.com/7672/1697337-7672782.pdf?src-supplier=Element14; ComponentLink7Description: https://datasheet.ciiva.com/7672/1697337-7672782.pdf?src-supplier=Element14; ComponentLink8URL: https://datasheet.ciiva.com/2463/dcrcwe3-2463093.pdf?src-supplier=Digi-Key; ComponentLink8Description: https://datasheet.ciiva.com/2463/dcrcwe3-2463093.pdf?src-supplier=Digi-Key; ComponentLink9URL: https://datasheet.ciiva.com/16396/dcrcwe3-16396918.pdf?src-supplier=Future+Electronics; ComponentLink9Description: https://datasheet.ciiva.com/16396/dcrcwe3-16396918.pdf?src-supplier=Future+Electronics; ComponentLink10URL: https://datasheet.ciiva.com/3256/dcrcwe3-3256249.pdf?src-supplier=Avnet; ComponentLink10Description: https://datasheet.ciiva.com/3256/dcrcwe3-3256249.pdf?src-supplier=Avnet; ComponentLink11URL: https://datasheet.ciiva.com/5552/dcrcwe3-109170-5552201.pdf?src-supplier=Mouser; ComponentLink11Description: https://datasheet.ciiva.com/5552/dcrcwe3-109170-5552201.pdf?src-supplier=Mouser; ComponentLink12URL: https://datasheet.ciiva.com/2463/dcrcwe3-2463091.pdf?src-supplier=Digi-Key; ComponentLink12Description: https://datasheet.ciiva.com/2463/dcrcwe3-2463091.pdf?src-supplier=Digi-Key; ComponentLink13URL: https://datasheet.ciiva.com/2463/dcrcwe3-2463092.pdf?src-supplier=Digi-Key; ComponentLink13Description: https://datasheet.ciiva.com/2463/dcrcwe3-2463092.pdf?src-supplier=Digi-Key; Supplier Part Number 1: 541-22.0LCT-ND
footprint R0402 Vishay
pins: 1, 2

## CRCW040249R9FKTD
designator R?, comment 49.9R
RES SMD 49.9 OHM 1% 1/16W 0402; Manufacturer: Vishay; Manufacturer Part Number: CRCW040249R9FKTD; Power Rating: 63mW; Temperature Coefficient: 100ppm/°C; Voltage Rating: 50V; Supplier 1: Digi-Key; RoHS: Yes; Category: Chip SMD Resistors; Stock 1: 2971; Pricing 1: 1=0.12000, 10=0.10900, 100=0.04200, 1000=0.01848, 2500=0.01596, 5000=0.01428 (USD); Case/Package: 0402; Contact Plating: Tin,Lead; Weight: 2.3E-05oz; Case Code (Metric): 1005; Case Code (Imperial): 0402; Min Operating Temperature: -55°C; Max Operating Temperature: 155°C; Resistance: 49.9R; Tolerance: 1%; Resistor Type: Thick Film; Packaging: Tape and Reel; Package Quantity: 10000; Number of Terminations: 2; Max Power Dissipation: 63mW; Voltage Rating (DC): 50V; Features: Automotive AEC-Q200; Length: 1mm; Width: 0.02inch; Height: 0.016inch; Depth: 0.5mm; Radiation Hardening: No; Lead Free: Contains Lead; Military Standard: Not; REACH SVHC: Unknown; ComponentLink1URL: https://datasheet.ciiva.com/2563/dcrcw-2563534.pdf?src-supplier=Digi-Key; ComponentLink1Description: https://datasheet.ciiva.com/2563/dcrcw-2563534.pdf?src-supplier=Digi-Key; Supplier Part Number 1: 541-2963-1-ND
footprint R0402 Vishay
pins: 1, 2

## CRCW040275R0FKED
designator R?, comment 75R
VISHAY         CRCW040275R0FKED.            Surface Mount Chip Resistor, Thick Film, AEC-Q200 CRCW Series, 75 ohm, 63 mW,  1%, 50 V; Power Rating: 63mW; Temperature Coefficient: 100ppm/°C; Voltage Rating: 50V; Supplier 1: Digi-Key; Manufacturer: Vishay; Manufacturer Part Number: CRCW040275R0FKED; RoHS: Yes; Category: Chip SMD Resistors; Stock 1: 3085; Pricing 1: 1=0.10000, 10=0.03300, 100=0.01330, 1000=0.00596, 2500=0.00518, 5000=0.00428 (USD); Case/Package: 0402; Contact Plating: Tin; Weight: 2.3E-05oz; Case Code (Imperial): 0402; Case Code (Metric): 1005; Min Operating Temperature: -55°C; Max Operating Temperature: 155°C; Resistance: 75R; Tolerance: 1%; Resistor Type: Thick Film; Termination: SMD/SMT; Packaging: Tape and Reel; Package Quantity: 10; Number of Terminations: 2; Max Power Dissipation: 63mW; Voltage Rating (DC): 50V; Working Voltage: 50V; Features: Automotive AEC-Q200; Length: 1mm; Width: 0.5mm; Height: 0.35mm; Depth: 0.5mm; Radiation Hardening: No; Lead Free: Lead Free; REACH SVHC: Unknown; Military Standard: Not; ComponentLink1URL: https://datasheet.ciiva.com/11811/0900766b80d98824-11811348.pdf?src-supplier=RSComponents; ComponentLink1Description: https://datasheet.ciiva.com/11811/0900766b80d98824-11811348.pdf?src-supplier=RSComponents; ComponentLink2URL: https://datasheet.ciiva.com/2463/dcrcwe3-2463217.pdf?src-supplier=Digi-Key; ComponentLink2Description: https://datasheet.ciiva.com/2463/dcrcwe3-2463217.pdf?src-supplier=Digi-Key; ComponentLink3URL: https://datasheet.ciiva.com/2463/dcrcwe3-2463218.pdf?src-supplier=Digi-Key; ComponentLink3Description: https://datasheet.ciiva.com/2463/dcrcwe3-2463218.pdf?src-supplier=Digi-Key; ComponentLink4URL: https://datasheet.ciiva.com/2463/dcrcwe3-2463219.pdf?src-supplier=Digi-Key; ComponentLink4Description: https://datasheet.ciiva.com/2463/dcrcwe3-2463219.pdf?src-supplier=Digi-Key; ComponentLink5URL: https://datasheet.ciiva.com/16779/70201119-16779527.pdf?src-supplier=Allied+Electronics; ComponentLink5Description: https://datasheet.ciiva.com/16779/70201119-16779527.pdf?src-supplier=Allied+Electronics; ComponentLink6URL: https://datasheet.ciiva.com/16885/dcrcwe3-16885703.pdf?src-supplier=Avnet+Europe; ComponentLink6Description: https://datasheet.ciiva.com/16885/dcrcwe3-16885703.pdf?src-supplier=Avnet+Europe; ComponentLink7URL: https://datasheet.ciiva.com/7673/1697337-7673451.pdf?src-supplier=Element14; ComponentLink7Description: https://datasheet.ciiva.com/7673/1697337-7673451.pdf?src-supplier=Element14; ComponentLink8URL: https://datasheet.ciiva.com/7673/1697337-7673279.pdf?src-supplier=Element14; ComponentLink8Description: https://datasheet.ciiva.com/7673/1697337-7673279.pdf?src-supplier=Element14; Supplier Part Number 1: 541-75.0LCT-ND
footprint R0402 Vishay
pins: 1, 2